# Altium footprint library Diodes.PcbLib: 14 footprints
Each footprint in its own frame and in the unit in brackets; x right, y up, seen from the top. Pads: shape width x height; smd on the part's side, far side on the other; paste and mask are expansions set on the pad; w line width, h text height; cw(c..) or ccw(c..) is an arc to the next point about the centre after c.
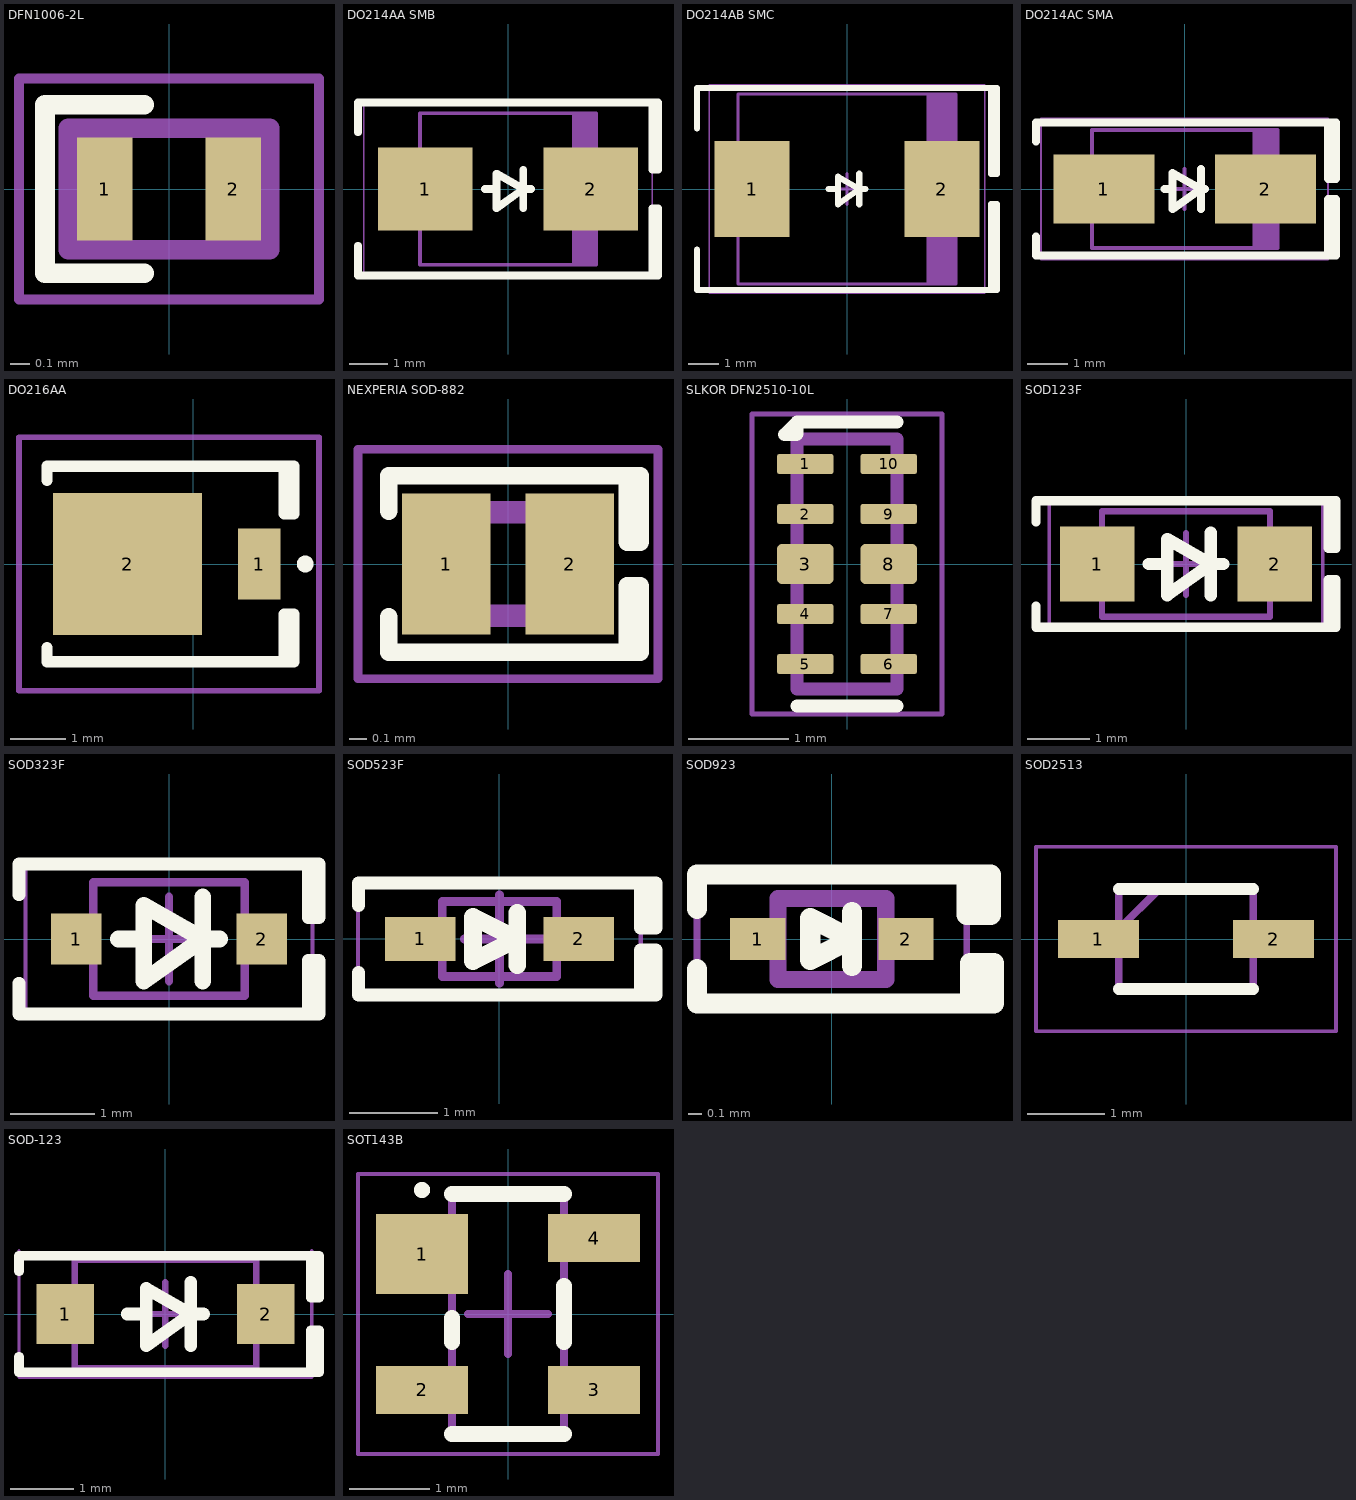
[diagram p0: the footprints below, top view; thin cyan lines are the x and y axes]

## DFN1006-2L [mm] "DFN1006-2L"
height 0.5
pads (2):
  rect 0.28x0.52 smd: 1(-0.325,0) 2(0.325,0)
Top Overlay:
  lines w0.1: -0.125,-0.425 -0.625,-0.425 -0.625,0.425 -0.125,0.425
Top Component Outline:
  lines w0.1: -0.506,-0.306 0.506,-0.306 0.506,0.306 -0.506,0.306 -0.506,-0.306
Top Courtyard:
  lines w0.05: -0.757,-0.556 0.757,-0.556 0.757,0.556 -0.757,0.556 -0.757,-0.556
3D body "DFN1006-2.step": height 0.48, standoff -0.02, extent -0.5,-0.3 0.5,0.3

## DO214AA SMB [mm] "Molded Diode, 2-Leads, Body 4.31x3.62mm, IPC Medium Density"
height 2.44
pads (2):
  rect 2.45x2.15 smd: 1(-2.15,0) 2(2.15,0)
Top Overlay:
  lines w0.2: -3.9,-1.475 -3.9,-2.25 3.9,-2.25 3.9,-0.5 3.75,-0.5 3.75,-2.25 ; -3.9,1.475 -3.9,2.25 3.9,2.25 3.9,0.5 3.75,0.5 3.75,2.25 ; -0.6,0 -0.3,0 ; 0.4,-0.5 0.4,0.5 ; 0.6,0 0.4,0 ; 0.4,0 -0.3,0.4 -0.3,-0.5 0.4,0
Top Component Outline:
  rectangle: 1.67,-1.97 2.285,1.97
  lines w0.1: -2.285,-1.97 -2.285,1.97 2.285,1.97 2.285,-1.97 -2.285,-1.97
Top Courtyard:
  lines w0.05: -3.75,-2.25 -3.75,2.25 3.75,2.25 3.75,-2.25 -3.75,-2.25
3D body "SMB.STEP": height 2.4, standoff 0, extent -2.6,-1.8 2.6,1.8

## DO214AB SMC [mm] "Molded Diode, 2-Leads, Body 6.85x5.90mm, IPC Medium Density"
height 2.62
pads (2):
  rect 2.45x3.15 smd: 1(-3.1,0) 2(3.1,0)
Top Overlay:
  lines w0.2: -4.9,-1.975 -4.9,-3.3 4.9,-3.3 4.9,-0.5 4.7,-0.5 4.7,-3.3 ; -4.9,1.975 -4.9,3.3 4.9,3.3 4.9,0.5 4.7,0.5 4.7,3.3 ; -0.6,0 -0.3,0 ; 0.4,-0.5 0.4,0.5 ; 0.6,0 0.4,0 ; 0.4,0 -0.3,-0.5 -0.3,0.4 0.4,0
Top Component Outline:
  rectangle: 2.599,-3.11 3.555,3.11
  lines w0.1: -3.555,-3.11 3.555,-3.11 3.555,3.11 -3.555,3.11 -3.555,-3.11
Top Courtyard:
  lines w0.05: -4.5,-3.4 4.5,-3.4 4.5,3.4 -4.5,3.4 -4.5,-3.4
  lines w0.1: -0.5,0 0.5,0 ; 0,-0.5 0,0.5
3D body "SMC.STEP": height 2.6, standoff 0, extent -3.97,-2.952 3.97,2.952

## DO214AC SMA [mm] "Molded Diode, 2-Leads, Body 4.30x2.60mm, IPC Medium Density"
height 2.4
pads (2):
  rect 2.5x1.7 smd: 1(-2,0) 2(2,0)
Top Overlay:
  lines w0.2: -3.683,-1.175 -3.683,-1.651 3.75,-1.651 3.75,-0.254 3.556,-0.254 3.556,-1.651 ; -3.683,1.175 -3.683,1.651 3.75,1.651 3.75,0.254 3.556,0.254 3.556,1.651 ; -0.5,0 -0.3,0 ; 0.4,-0.5 0.4,0.5 ; 0.5,0 0.4,0 ; 0.4,0 -0.3,-0.5 -0.3,0.4 0.4,0
Top Component Outline:
  rectangle: 1.681,-1.46 2.3,1.46
  lines w0.1: -2.3,-1.46 2.3,-1.46 2.3,1.46 -2.3,1.46 -2.3,-1.46
Top Courtyard:
  lines w0.05: -3.556,-1.75 3.556,-1.75 3.556,1.75 -3.556,1.75 -3.556,-1.75
  lines w0.1: -0.5,0 0.5,0 ; 0,-0.5 0,0.5
3D body "SMA.STEP": height 2.4, standoff 0, extent -2.6,-1.375 2.6,1.375

## DO216AA [mm]
pads (2):
  rect 0.76x1.27 smd: 1(1.178,0)
  rect 2.67x2.54 smd: 2(-1.177,0)
Top Overlay:
  lines w0.2: -2.622,-1.5 -2.622,-1.75 1.803,-1.75 1.803,-0.9 1.628,-0.9 1.628,-1.75 ; -2.622,1.5 -2.622,1.75 1.803,1.75 1.803,0.9 1.628,0.9 1.628,1.75 ; 1.953,0 ccw(c2.003,0) 2.053,0 ; 1.953,0 cw(c2.003,0) 2.053,0 ; 1.953,0 ccw(c2.003,0) 2.053,0
Top Component Outline:
  lines w0.1: -1.822,-0.95 -1.822,0.95 0.078,0.95 0.078,-0.95 -1.822,-0.95
Top Courtyard:
  lines w0.1: -3.125,-2.27 -3.125,2.27 2.25,2.27 2.25,-2.27 -3.125,-2.27
3D body "DO216AA.step": height 1.02, standoff 0, extent -2.282,-0.955 1.478,0.955

## NEXPERIA SOD-882 [mm]
pads (2):
  rect 0.5x0.8 smd paste-0.1 mask+0: 1(-0.35,0) 2(0.35,0)
Top Overlay:
  lines w0.1: -0.675,-0.3 -0.675,-0.5 0.75,-0.5 0.75,-0.125 0.675,-0.125 0.675,-0.5 ; -0.675,0.3 -0.675,0.5 0.75,0.5 0.75,0.125 0.675,0.125 0.675,0.5
Top Solder:
  drawing of 2 lines, arcs and shapes, not listed
Top Component Outline:
  lines w0.127: -0.493,-0.292 -0.493,0.292 0.493,0.292 0.493,-0.292 -0.493,-0.292
Top Courtyard:
  lines w0.05: -0.85,-0.65 -0.85,0.65 0.85,0.65 0.85,-0.65 -0.85,-0.65
3D body "step_temp.STEP": height 0.5, standoff 0, extent -0.492,-0.292 0.493,0.293

## SLKOR DFN2510-10L [mm]
height 0.6
pads (10):
  rrect25% 0.565x0.2 smd mask+0: 1(-0.417,1) 2(-0.417,0.5) 4(-0.417,-0.5) 5(-0.417,-1) 6(0.417,-1) 7(0.417,-0.5) 9(0.417,0.5) 10(0.417,1)
  rrect25% 0.565x0.4 smd paste-1 mask+0: 3(-0.417,0) 8(0.417,0)
Top Overlay:
  lines w0.127: -0.5,-1.42 0.5,-1.42 ; 0.5,1.42 -0.5,1.42 ; -0.5,1.42 -0.625,1.295 -0.505,1.295 -0.5,1.3 -0.5,1.42
Top Paste:
  drawing of 2 lines, arcs and shapes, not listed
Top Solder:
  drawing of 10 lines, arcs and shapes, not listed
Top Component Outline:
  lines w0.127: -0.5,-1.25 0.5,-1.25 0.5,1.25 -0.5,1.25 -0.5,-1.25
Top Courtyard:
  lines w0.05: -0.95,-1.5 -0.95,1.5 0.95,1.5 0.95,-1.5 -0.95,-1.5
3D body "SLKOR DFN2510-10L.STEP": height 0.55, standoff 0, extent -0.5,-1.25 0.5,1.25

## SOD123F [mm] "SODFL, 2-Leads, Body 1.60x3.50mm, IPC Medium Density"
height 1
pads (2):
  rect 1.2x1.2 smd: 1(-1.43,0) 2(1.43,0)
Top Overlay:
  lines w0.15: -2.413,-0.675 -2.413,-1.016 2.286,-1.016 ; -2.413,0.675 -2.413,1.016 2.286,1.016 ; 2.286,-1.016 2.413,-1.016 2.413,-0.254 2.286,-0.254 2.286,-1.016 ; 2.286,1.016 2.286,0.254 2.413,0.254 2.413,1.016 2.286,1.016
  lines w0.2: -0.6,0 -0.3,0 ; 0.4,-0.5 0.4,0.5 ; 0.6,0 0.4,0 ; 0.4,0 -0.3,0.4 -0.3,-0.5 0.4,0
Top Component Outline:
  lines w0.1: -1.35,-0.85 -1.35,0.85 1.35,0.85 1.35,-0.85 -1.35,-0.85
Top Courtyard:
  lines w0.05: -2.2,-1 -2.2,1 2.2,1 2.2,-1 -2.2,-1
  lines w0.1: -0.5,0 0.5,0 ; 0,-0.5 0,0.5
3D body "SOD123F.STEP": height 1.1, standoff 0, extent -1.75,-0.8 1.75,0.8

## SOD323F [mm] "SODFL, 2-Leads, Body 1.25x2.50mm, IPC Medium Density"
height 0.8
pads (2):
  rect 0.6x0.6 smd: 1(-1.1,0) 2(1.1,0)
Top Overlay:
  lines w0.15: -1.778,-0.525 -1.778,-0.889 1.778,-0.889 1.778,-0.254 1.651,-0.254 1.651,-0.889 ; -1.778,0.525 -1.778,0.889 1.778,0.889 1.778,0.254 1.651,0.254 1.651,0.889
  lines w0.2: -0.6,0 -0.3,0 ; 0.4,-0.5 0.4,0.5 ; 0.6,0 0.4,0 ; 0.4,0 -0.3,0.4 -0.3,-0.5 0.4,0
Top Component Outline:
  lines w0.1: -0.9,-0.675 -0.9,0.675 0.9,0.675 0.9,-0.675 -0.9,-0.675
Top Courtyard:
  lines w0.05: -1.7,-0.85 -1.7,0.85 1.7,0.85 1.7,-0.85 -1.7,-0.85
  lines w0.1: -0.5,0 0.5,0 ; 0,-0.5 0,0.5
3D body "SOD323F.STEP": height 0.8, standoff 0, extent -1.25,-0.625 1.25,0.625

## SOD523F [mm] "SODFL, 2-Leads, Body 0.80x1.60mm, IPC Medium Density"
height 0.77
pads (2):
  rect 0.8x0.5 smd: 1(-0.9,0) 2(0.9,0)
Top Overlay:
  rectangle: 1.6,0.127 1.778,0.635
  rectangle: 1.6,-0.6 1.8,-0.127
  lines w0.15: -1.6,-0.381 -1.6,-0.635 1.651,-0.635 ; -1.6,0.381 -1.6,0.635 1.651,0.635 ; 1.6,-0.635 1.778,-0.635 1.778,-0.127 1.6,-0.127 1.6,-0.635 ; 1.6,0.127 1.6,0.635 1.778,0.635 1.778,0.127 1.6,0.127
  lines w0.2: 0.2,-0.3 0.2,0.3 ; -0.3,-0.25 -0.3,-0.1 -0.3,0.25 0.2,0 -0.3,-0.25
Top Component Outline:
  lines w0.1: -0.65,-0.425 0.65,-0.425 0.65,0.425 -0.65,0.425 -0.65,-0.425
Top Courtyard:
  lines w0.05: -1.606,-0.6 1.606,-0.6 1.606,0.6 -1.606,0.6 -1.606,-0.6
  lines w0.1: -0.4,0 0.6,0 ; 0,-0.5 0,0.5
3D body "SOD523F.STEP": height 0.65, standoff 0, extent -0.8,-0.4 0.8,0.4

## SOD923 [mm]
pads (2):
  rect 0.41x0.31 smd: 1(-0.55,0) 2(0.55,0)
Top Overlay:
  region: 1.178,0.444 0.978,0.444 0.978,0.179 1.178,0.179
  rectangle: 1.025,-0.444 1.225,-0.179
  lines w0.15: -1,-0.225 -1,-0.479 1.076,-0.479 ; -1,0.225 -1,0.479 1,0.479 ; -0.16,0.145 -0.16,-0.155 0.15,0 -0.16,0.155 ; 0.15,-0.2 0.15,0.2 ; 1,0.479 1.178,0.479 1.178,0.179 1,0.179 1,0.479 ; 1.025,-0.479 1.025,-0.179 1.203,-0.179 1.203,-0.479 1.025,-0.479
Top Component Outline:
  lines w0.127: -0.4,-0.3 0.4,-0.3 0.4,0.3 -0.4,0.3 -0.4,-0.3
Top Courtyard:
  lines w0.05: -1,-0.5 1,-0.5 1,0.5 -1,0.5 -1,-0.5
3D body "ON SEMI ESD9M5.0ST5G.step": height 0.4, standoff 0, extent -0.475,-0.3 0.525,0.3

## SOD2513 [mm]
pads (2):
  rect 1.05x0.5 smd: 1(-1.138,0) 2(1.138,0)
Top Overlay:
  lines w0.15: -0.875,-0.65 0.875,-0.65 ; -0.875,0.65 0.875,0.65
Top Component Outline:
  lines w0.1: -0.875,0.125 -0.35,0.65 ; -0.875,-0.65 -0.875,0.65 0.875,0.65 0.875,-0.65 -0.875,-0.65
Top Courtyard:
  lines w0.05: -1.95,-1.2 -1.95,1.2 1.95,1.2 1.95,-1.2 -1.95,-1.2
3D body "BAT60AE6327HTSA1.stp": height 1.1, standoff 0, extent -1.25,-0.65 1.25,0.65

## SOD-123 [mm] "SOD, 2-Leads, Body 1.55x3.70mm, IPC Medium Density"
height 1.35
pads (2):
  rect 0.9x0.95 smd: 1(-1.575,0) 2(1.575,0)
Top Overlay:
  lines w0.15: -2.3,-0.675 -2.3,-0.916 2.286,-0.916 ; -2.3,0.675 -2.3,0.916 2.286,0.916 ; 2.286,-0.916 2.286,-0.254 2.413,-0.254 2.413,-0.916 2.286,-0.916 ; 2.286,0.916 2.413,0.916 2.413,0.254 2.286,0.254 2.286,0.916
  lines w0.2: -0.6,0 -0.3,0 ; 0.4,-0.5 0.4,0.5 ; 0.6,0 0.4,0 ; 0.4,0 -0.3,-0.5 -0.3,0.4 0.4,0
Top Component Outline:
  lines w0.1: -1.425,-0.85 1.425,-0.85 1.425,0.85 -1.425,0.85 -1.425,-0.85
Top Courtyard:
  lines w0.05: -2.3,0.9 2.3,0.9 ; -2.3,1 -2.3,-1 2.3,-1 2.3,1
  lines w0.1: -0.5,0 0.5,0 ; 0,-0.5 0,0.5
3D body "SOD-123.STEP": height 1.35, standoff 0, extent -1.864,-0.775 1.864,0.775

## SOT143B [mm] "SOT143, 4-Leads, Body 2.90x2.30mm, Pitch 1.90mm, IPC Medium Density"
height 1.1
pads (4):
  rect 1.15x1 smd: 1(-1.075,0.75)
  rect 1.15x0.6 smd: 2(-1.075,-0.95) 3(1.075,-0.95) 4(1.075,0.95)
Top Overlay:
  circle w0.1: c-1.075,1.55 r0.05
  lines w0.2: -0.7,-1.5 0.7,-1.5 ; -0.7,-0.35 -0.7,-0.05 ; -0.7,1.5 0.7,1.5 ; 0.7,-0.35 0.7,0.35
Top Component Outline:
  lines w0.1: -0.7,-1.5 -0.7,1.5 0.7,1.5 0.7,-1.5 -0.7,-1.5
Top Courtyard:
  lines w0.05: -1.875,-1.75 -1.875,1.75 1.875,1.75 1.875,-1.75 -1.875,-1.75
  lines w0.1: -0.5,0 0.5,0 ; 0,-0.5 0,0.5
3D body "SOT143B.STEP": height 1, standoff 0, extent -1.1,-1.45 1.1,1.45